# Altium integrated library HCPL-3120-000E.IntLib: 1 symbol
Pins are listed as number, name and electrical type; pins without a type are passive.

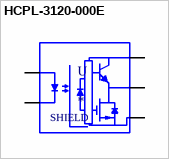
[diagram p0: symbol HCPL-3120-000E]

## HCPL-3120-000E
designator U
2.5A Gate Driver Optical Coupling 3750Vrms 1 Channel 8-DIP; MF: Broadcom Limited; MP: HCPL-3120-000E; Package: DIP-8 Broadcom; Value: *; Price: None; Availability: Unavailable; SnapEDA_Link: https://www.snapeda.com/parts/HCPL-3120-000E/Broadcom%20Limited/view-part/1774478/?ref=snap
footprint DIP762W65P254L990H470Q8
pins: 2 ANODE, 3 CATHODE, 5 VEE, 6 VO, 7 VO, 8 VCC
text: SHIELD